# Altium schematic symbol library 1526LЕ5 OSM.Schlib: 1 symbol
Pins are listed as number, name and electrical type; pins without a type are passive.

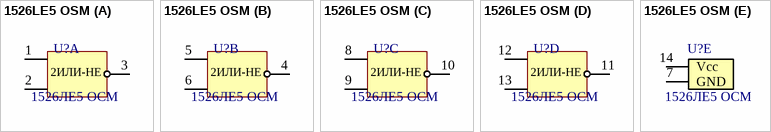
[diagram p0: symbol 1526LЕ5 OSM]

## 1526LЕ5 OSM
designator U?, comment 1526ЛЕ5 ОСМ
Назначение: 4-е логических элемента 2ИЛИ-НЕ; Наименование: 1526ЛЕ5 ОСМ
footprint 14PIN FLATPACK
part A pins: 1, 2, 3
part B pins: 4, 5, 6
part C pins: 8, 9, 10
part D pins: 11, 12, 13
part E pins: 7 GND, 14 Vcc
part A text: 2ИЛИ-НЕ
part B text: 2ИЛИ-НЕ
part C text: 2ИЛИ-НЕ
part D text: 2ИЛИ-НЕ